# Altium footprint library HEAT SINK.PcbLib: 1 footprints
Each footprint in its own frame and in the unit in brackets; x right, y up, seen from the top. Pads: shape width x height; smd on the part's side, far side on the other; paste and mask are expansions set on the pad; w line width, h text height; cw(c..) or ccw(c..) is an arc to the next point about the centre after c.
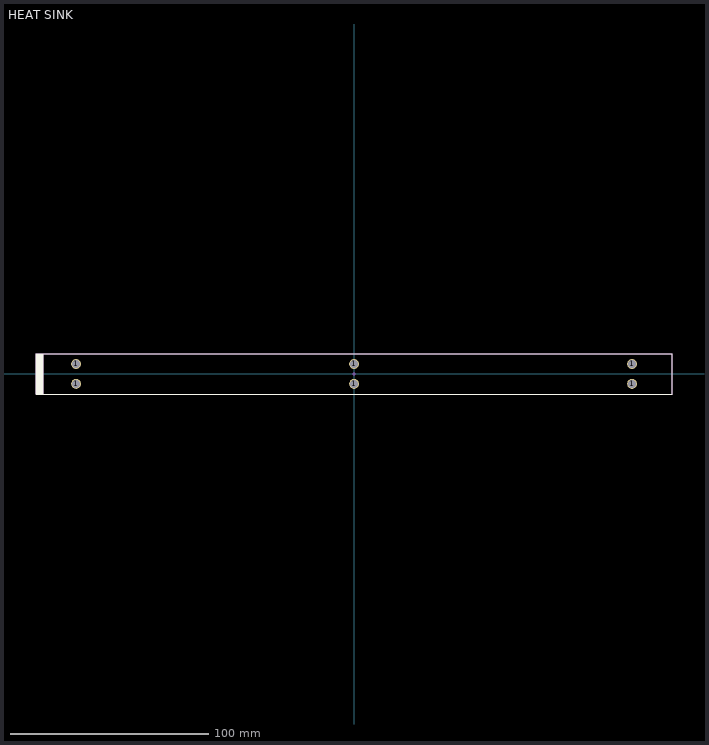
[diagram p0: the footprint, top view; thin cyan lines are the x and y axes]

## HEAT SINK [mm]
pads (6):
  round 5 hole 4: 1(-140,-5) 1(-140,5) 1(0,-5) 1(0,5) 1(140,-5) 1(140,5)
Top Overlay:
  rectangle: -160.3,-10.3 -156.5,10.2
  lines w0.254: -160.2,-10.204 -160.2,10.2 160.2,10.2 160.2,-10.204 -160.2,-10.204
Top Assembly:
  rectangle: -160.2,-10.2 -156.5,10.2
  lines w0.1: 0.6,5.065 0.635,5.1 ; -0.6,5.05 -0.6,5.05
  lines w0.254: -160.2,-10.198 160.2,-10.198 160.2,10.2 -160.2,10.2 -160.2,-10.198
  text "'.Designator'" at -0.85,-0.375 h0.7
Top TopCourtyard/BotCourtyard (Mech15):
  lines w0.254: -0.893,0 0,0 ; -0.011,-0.827 -0.011,0.055 ; 0,0.882 0,0 ; 0.893,0 0,0
3D body "Водоблок_2.STEP": height 95.5, standoff 0.5, extent -160,-10 160,10